# EAGLE library part GROVE_AS5600 (library Grove AS5600)
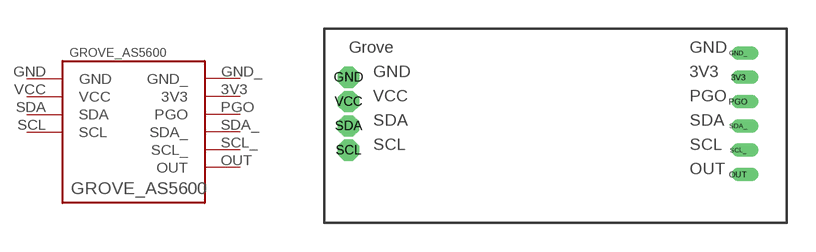
[diagram p0: symbol with the pads of GROVE_AS5600; footprint GROVE_AS5600]

Designator prefix GROVE_AS5600

## GROVE_AS5600  [GROVE_AS5600]
3V3  3V3
GND  GND
GND_  GND_
OUT  OUT
PGO  PGO
SCL  SCL
SCL_  SCL_
SDA  SDA
SDA_  SDA_
VCC  VCC

## Footprint GROVE_AS5600 (pad centres in mm)
drill 0.2 offset: 3V3 21.59,7.62; GND_ 21.59,8.89; OUT 21.59,2.54; PGO 21.59,6.35; SCL_ 21.59,3.81; SDA_ 21.59,5.08
drill 0.6 octagon: GND 1.27,7.62; SCL 1.27,3.81; SDA 1.27,5.08; VCC 1.27,6.35